# EAGLE library part CAP1114 (library gee_s)
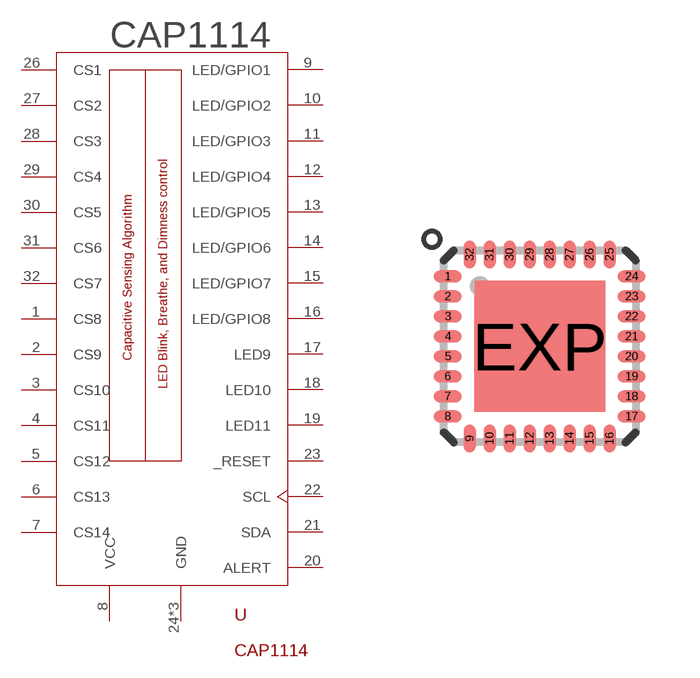
[diagram p36: symbol with the pads of QFN32; footprint QFN32]

Designator prefix -

## CAP1114  [QFN32]
1  CS8  in
2  CS9  in
3  CS10  in
4  CS11  in
5  CS12  in
6  CS13  in
7  CS14  in
8  VCC  sup
9  LED/GPIO1
10  LED/GPIO2
11  LED/GPIO3
12  LED/GPIO4
13  LED/GPIO5
14  LED/GPIO6
15  LED/GPIO7
16  LED/GPIO8
17  LED9  out
18  LED10  out
19  LED11  out
20  ALERT
21  SDA
22  SCL  in
23  _RESET  in
24  GND  sup
25  GND  sup
26  CS1  in
27  CS2  in
28  CS3  in
29  CS4  in
30  CS5  in
31  CS6  in
32  CS7  in
EXP  GND  sup

## Footprint QFN32 (pad centres in mm)
32-Pin (5x5 mm) QFN Source: http://www.cypress.com .. 38-12025_0P_V.pdf
smd 0.7 x 0.3: 1 -2.3,1.75; 2 -2.3,1.25; 3 -2.3,0.75; 4 -2.3,0.25; 5 -2.3,-0.25; 6 -2.3,-0.75; 7 -2.3,-1.25; 8 -2.3,-1.75; 17 2.3,-1.75; 18 2.3,-1.25; 19 2.3,-0.75; 20 2.3,-0.25; 21 2.3,0.25; 22 2.3,0.75; 23 2.3,1.25; 24 2.3,1.75
smd 0.3 x 0.7: 9 -1.75,-2.3; 10 -1.25,-2.3; 11 -0.75,-2.3; 12 -0.25,-2.3; 13 0.25,-2.3; 14 0.75,-2.3; 15 1.25,-2.3; 16 1.75,-2.3; 25 1.75,2.3; 26 1.25,2.3; 27 0.75,2.3; 28 0.25,2.3; 29 -0.25,2.3; 30 -0.75,2.3; 31 -1.25,2.3; 32 -1.75,2.3
smd 3.276 x 3.276: EXP 0,0